# Altium footprint library LED6-SMD-5050.PcbLib: 1 footprints
Each footprint in its own frame and in the unit in brackets; x right, y up, seen from the top. Pads: shape width x height; smd on the part's side, far side on the other; paste and mask are expansions set on the pad; w line width, h text height; cw(c..) or ccw(c..) is an arc to the next point about the centre after c.
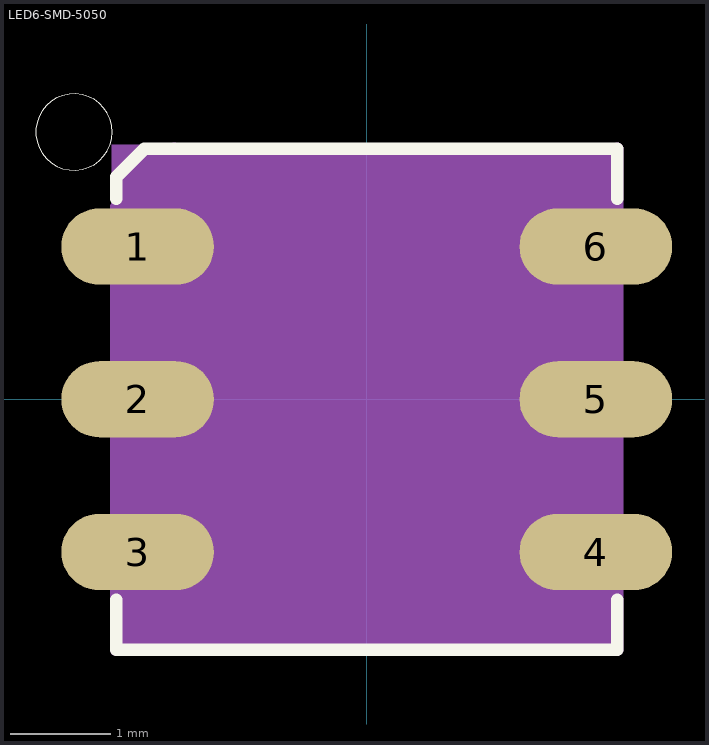
[diagram p0: the footprint, top view; thin cyan lines are the x and y axes]

## LED6-SMD-5050 [mil]
pads (6):
  oval 60x30 smd: 1(-90,60) 2(-90,0) 3(-90,-60) 4(90,-60) 5(90,0) 6(90,60)
Top Overlay:
  circle w0: c-115,105 r15
  lines w5: -98.43,-78.74 -98.43,-98.43 98.43,-98.43 98.43,-78.74 ; -98.43,78.74 -98.43,87.29 -87.29,98.43 98.43,98.43 98.43,78.74
Mechanical 13:
  lines w5: -98.43,-98.43 -98.43,75.63 -75.63,98.43 ; 98.43,-98.43 98.43,98.43
Mechanical 15:
  region: 100,-100.14 -100.14,-100.14 -100.14,100 100,100